# Altium footprint library My.PcbLib: 52 footprints (part 4 of 4)
Each footprint in its own frame and in the unit in brackets; x right, y up, seen from the top. Pads: shape width x height; smd on the part's side, far side on the other; paste and mask are expansions set on the pad; w line width, h text height; cw(c..) or ccw(c..) is an arc to the next point about the centre after c.
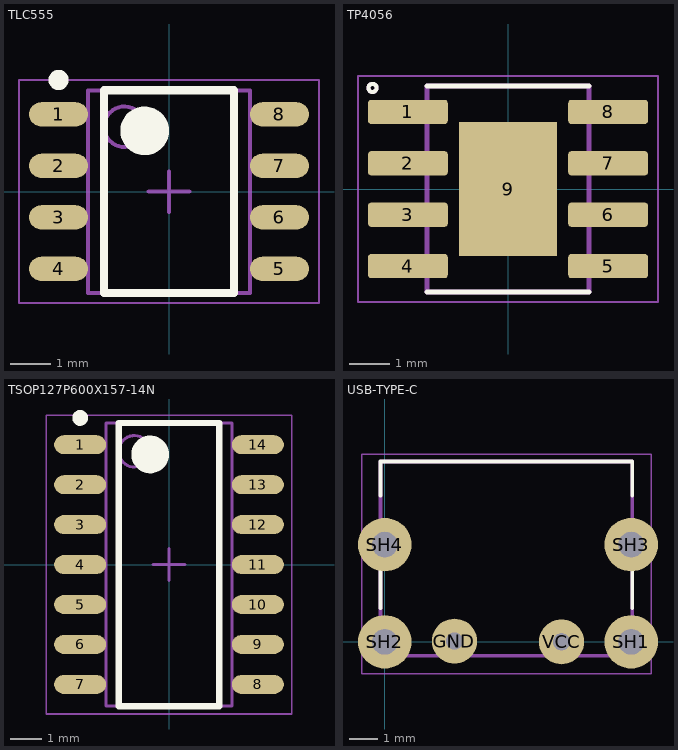
[diagram p3: the footprints below, top view; thin cyan lines are the x and y axes]

## TLC555 [mm]
pads (8):
  oval 1.45x0.6 smd: 1(-2.725,1.905) 2(-2.725,0.635) 3(-2.725,-0.635) 4(-2.725,-1.905) 5(2.725,-1.905) 6(2.725,-0.635) 7(2.725,0.635) 8(2.725,1.905)
Top Overlay:
  circle w0.6: c-0.6,1.5 r0.3
  circle w0.25: c-2.725,2.755 r0.125
  lines w0.2: -1.6,-2.5 1.6,-2.5 1.6,2.5 -1.6,2.5 -1.6,-2.5
Mechanical 13:
  circle w0.1: c-1.1,1.6 r0.5
  lines w0.1: -2,-2.5 2,-2.5 2,2.5 -2,2.5 -2,-2.5
Top Courtyard (Mech15):
  lines w0.05: -3.7,-2.75 3.7,-2.75 3.7,2.75 -3.7,2.75 -3.7,-2.75
  lines w0.1: -0.5,0 0.5,0 ; 0,-0.5 0,0.5
3D body: height 1.75, standoff 0.1, extent -2,-2.5 2,2.5

## TP4056 [mm]
height 1.75
pads (9):
  rrect25% 1.97x0.6 smd: 1(-2.475,1.905) 2(-2.475,0.635) 3(-2.475,-0.635) 4(-2.475,-1.905) 5(2.475,-1.905) 6(2.475,-0.635) 7(2.475,0.635) 8(2.475,1.905)
  rect 2.413x3.302 smd paste-3: 9(0,0)
Top Overlay:
  circle w0.1: c-3.35,2.5 r0.1
  lines w0.127: -2,-2.55 2,-2.55 ; -2,2.55 2,2.55
Top Paste:
  region: 0.645,-0.82 -0.645,-0.82 -0.645,0.82 0.645,0.82
Mechanical 13:
  circle w0.1: c-3.35,2.5 r0.1
  lines w0.127: -2,-2.55 2,-2.55 2,2.55 -2,2.55 -2,-2.55
Top Courtyard (Mech15):
  lines w0.05: -3.71,-2.8 3.71,-2.8 3.71,2.8 -3.71,2.8 -3.71,-2.8
3D body "step_temp.STEP": height 1.75, standoff 0, extent -3,-2.45 3,2.45

## TSOP127P600X157-14N [mm] "TSOP, 14-Leads, Body 8,75x3,90mm, Pitch 1,27mm, IPC Medium Density"
height 1.57
pads (14):
  oval 1.65x0.6 smd: 1(-2.825,3.81) 2(-2.825,2.54) 3(-2.825,1.27) 4(-2.825,0) 5(-2.825,-1.27) 6(-2.825,-2.54) 7(-2.825,-3.81) 8(2.825,-3.81) 9(2.825,-2.54) 10(2.825,-1.27) 11(2.825,0) 12(2.825,1.27) 13(2.825,2.54) 14(2.825,3.81)
Top Overlay:
  circle w0.25: c-2.825,4.66 r0.125
  circle w0.6: c-0.6,3.5 r0.3
  lines w0.2: -1.6,-4.5 -1.6,4.5 1.6,4.5 1.6,-4.5 -1.6,-4.5
Mechanical 13:
  circle w0.1: c-1.1,3.6 r0.5
  lines w0.1: -2,-4.5 -2,4.5 2,4.5 2,-4.5 -2,-4.5
Top Courtyard (Mech15):
  lines w0.05: -3.9,-4.75 -3.9,4.75 3.9,4.75 3.9,-4.75 -3.9,-4.75
  lines w0.1: -0.5,0 0.5,0 ; 0,-0.5 0,0.5
3D body: height 1.57, standoff 0.1, extent -2,-4.5 2,4.5

## USB-TYPE-C [mm]
height 3.16
pads (6):
  round 1.6 hole 0.6: GND(2.475,0.025) VCC(6.275,0)
  round 1.9 hole 0.9: SH1(8.75,0) SH2(0,0) SH3(8.75,3.45) SH4(0,3.45)
Top Overlay:
  lines w0.127: -0.15,1.195 -0.15,2.605 ; -0.15,5.195 -0.15,6.4 8.79,6.4 8.79,5.195 ; 8.79,1.195 8.79,2.605
Mechanical 13:
  lines w0.127: -0.15,-0.5 8.79,-0.5 8.79,6.4 -0.15,6.4 -0.15,-0.5
Top Courtyard (Mech15):
  lines w0.05: -0.825,-1.125 9.465,-1.125 9.465,6.65 -0.825,6.65 -0.825,-1.125
3D body "step_temp.STEP": height 3.28, standoff -1.88, extent -0.15,-0.55 8.79,6.35